# EAGLE library part NE5534 (library _mtvl_ic)
OP AMP
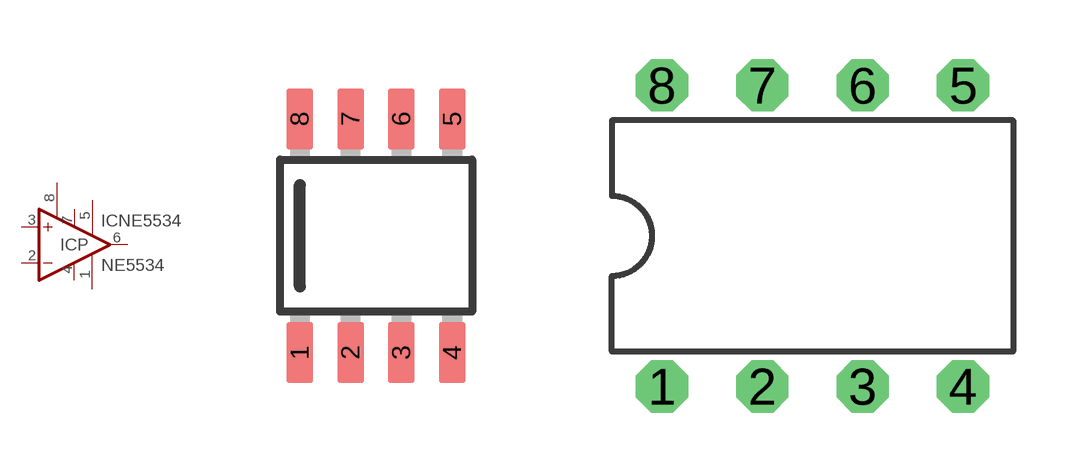
[diagram p7: symbol with the pads of SO08; footprints SO08, DIP8]

Designator prefix IC; gates NE5534=NE5534 P=PWR+-

## NE5534D  [SO08]
1  NE5534:BALANCE  pas
2  NE5534:-IN  in
3  NE5534:+IN  in
4  P:V-  pwr
5  NE5534:COMP  pas
6  NE5534:OUT  out
7  P:V+  pwr
8  NE5534:COMP/BAL  pas

## NE5534P  [DIP8]
Pads as for SO08

## Footprint SO08 (pad centres in mm)
Small Outline Package 8
smd 0.66 x 1.524: 1 -1.905,-2.921; 2 -0.635,-2.921; 3 0.635,-2.921; 4 1.905,-2.921; 5 1.905,2.921; 6 0.635,2.921; 7 -0.635,2.921; 8 -1.905,2.921

## Footprint DIP8 (pad centres in mm)
Dual In Line Package
drill 0.813 pad 1.27 octagon: 1 -3.81,-3.81; 2 -1.27,-3.81; 3 1.27,-3.81; 4 3.81,-3.81; 5 3.81,3.81; 6 1.27,3.81; 7 -1.27,3.81; 8 -3.81,3.81